# EAGLE library part S9032-02 (library systas0)
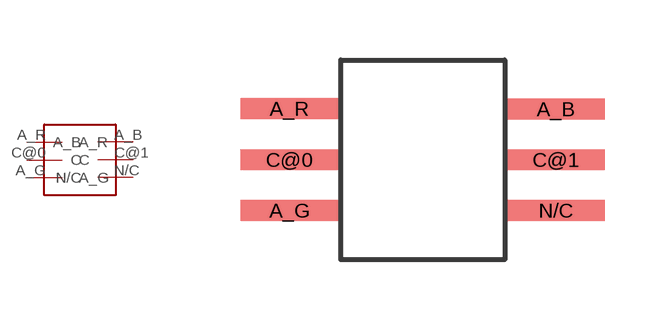
[diagram p0: symbol with the pads of S9032-02; footprint S9032-02]

Designator prefix -

## S9032-02  [S9032-02]
A_B  A_B
A_G  A_G
A_R  A_R
C@0  C
C@1  C
N/C  N/C

## Footprint S9032-02 (pad centres in mm)
smd 2.45 x 0.52: A_B 3.33,1.27; A_G -3.33,-1.27; A_R -3.34,1.28; C@0 -3.34,0; C@1 3.33,0; N/C 3.33,-1.27